# Altium schematic symbol library Schlib2.SchLib: 1 symbol
Pins are listed as number, name and electrical type; pins without a type are passive.

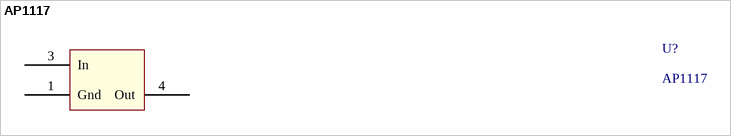
[diagram p0: symbol AP1117]

## AP1117
designator U?
pins: 1 Gnd (power), 3 In (power), 4 Out (power)